# EAGLE library part NHD-C0220BIZ-FS(RGB)-FBW-3VM (library PAS)
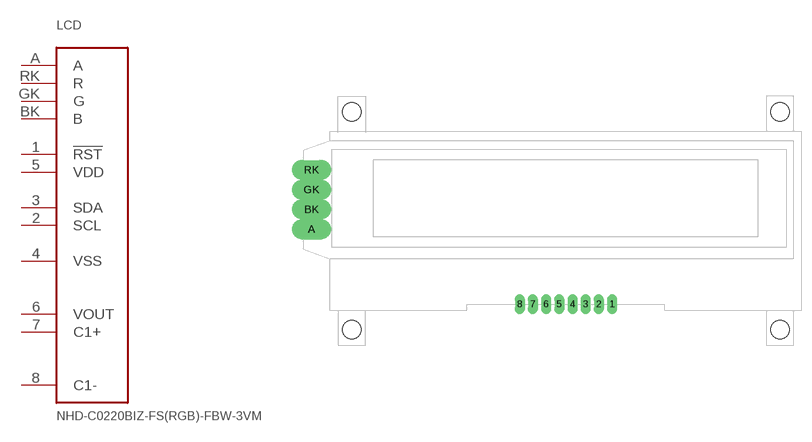
[diagram p4: symbol with the pads of NHD-3COLOR-2X20; footprint NHD-3COLOR-2X20]

Designator prefix LCD

## NHD-C0220BIZ-FS(RGB)-FBW-3VM  [NHD-3COLOR-2X20]
1  !RST  pas
2  SCL  pas
3  SDA  pas
4  VSS  pas
5  VDD  pas
6  VOUT  pas
7  C1+  pas
8  C1-  pas
A  A  pas
BK  B  pas
GK  G  pas
RK  R  pas

## Footprint NHD-3COLOR-2X20 (pad centres in mm)
New Haven Display 2x20 tricolor backlit LCD. NHD-c0220biz-fsrgb-fbw-3vm
drill 1 long: 1 7,-14.1; 2 5,-14.1; 3 3,-14.1; 4 1,-14.1; 5 -1,-14.1; 6 -3,-14.1; 7 -5,-14.1; 8 -7,-14.1
drill 2 pad 2.54 long: A -38.6,-2.7; BK -38.6,0.3; GK -38.6,3.3; RK -38.6,6.3
hole 2.8 at -32.5,15.15
hole 2.8 at 32.5,15.15
hole 2.8 at 32.5,-17.95
hole 2.8 at -32.5,-17.95